# Altium schematic symbol library MyLibrary.SchLib: 320 symbols (part 1 of 7)
Pins are listed as number, name and electrical type; pins without a type are passive.

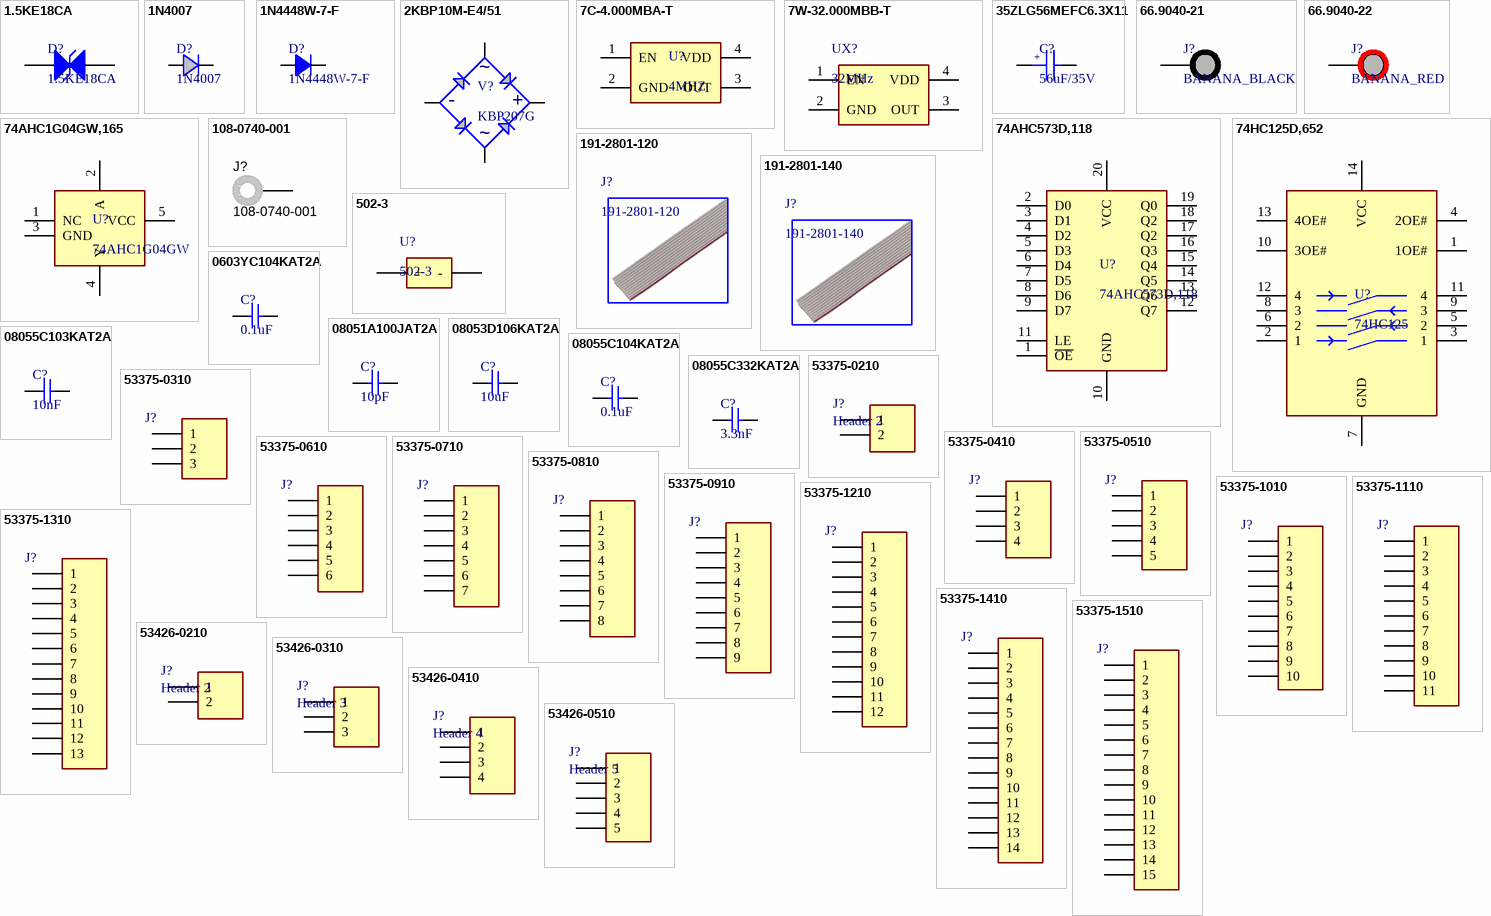
[diagram p0: symbols 1.5KE18CA to 53426-0510]

## 1.5KE18CA
designator D?
TVS 15.3VWM DO201 32.5VC; Manufacturer: STMicroelectronics; Reverse Standoff Voltage: 15.3V; Min Breakdown Voltage: 17.1V; Clamping Voltage: 32.5V; Peak Pulse Current: 308A; Peak Pulse Power: 1.5kW; Polarity: Bidirectional; Test Current: 1mA; Direction: Unidirectional,Bidirectional; Number of Elements: 1; Max Breakdown Voltage: 18.9V; Max Reverse Leakage Current: 1uA; Element Configuration: Single; Power Line Protection: No; Voltage Rating (DC): 18V; Capacitance: 4.3nF; Type: THT; Supplier 1: Farnell; Manufacturer Part Number: 1.5KE18CA; Stock 1: 8896; Pricing 1: 5=0.412, 25=0.361, 100=0.284, 250=0.265, 500=0.195, 1000=0.18, 5000=0.169 (EUR); Mount: Through Hole; Number of Pins: 2; Weight: 0.01lb; Min Operating Temperature: -65°C; Max Operating Temperature: 175°C; Packaging: Tape and Reel; Breakdown Voltage: 17.1V; Reverse Breakdown Voltage: 17.1V; Package Quantity: 1; Max Surge Current: 1mA; Power Dissipation: 1.5kW; Leakage Current: 1uA; Operating Supply Voltage: 15.3V; Termination: Through Hole; Number of Bidirectional Channels: 1; Diameter: 5.3mm; Length: 9.5mm; Height: 5.3mm; Width: 5.3mm; Radiation Hardening: No; Lead Free: Lead Free; REACH SVHC: No SVHC; ComponentLink1URL: https://datasheet.ciiva.com/338/cd00000663-338918.pdf; ComponentLink1Description: Datasheet; Supplier Part Number 1: 9801111; Package: DO-201
footprint DIODA-DO201
pins: A, C

## 1N4007
designator D?
DIODE 1000V DO41 1A; Manufacturer: FAIRCHILD SEMICONDUCTOR; Repetitive Reverse Voltage Vrrm Max: 1; Diode Configuration: Single; Forward Voltage VF Max: 1.1; Forward Surge Current Ifsm Max: 30; Diode Case Style: DO-41 (DO-204; No. of Pins: 2 Pin; Product Range: 1N4007 Series; SVHC: No SVHC (15-Jun-2015); Diode Type: Standard Recovery; Junction Temperature Tj Max: 175; Power Dissipation Ptot Max: 2.5; Type: THT; Supplier 1: Future Electronics; Manufacturer Part Number: 1N4007; RoHS: YES; Stock 1: 49010; Pricing 1: 1=0.146, 10=0.137, 25=0.134, 50=0.131, 100=0.0465, 500=0.042, 1000=0.028, 2500=0.019 (GBP); Forward Current If(AV): 1; Reverse Recovery Time trr Max: -; Operating Temperature Max: 150; Packaging: Cut Tape; Current Ifsm: 30; Device Marking: 1N4007; Forward Voltage: 1.1; Operating Temperature Min: -55; Operating Temperature Range: -55°C to +175; Termination Type: Axial Leaded<!--FANDB--><div class="features-and-benefits-container"><div class="features-and-benefits-description"><span class="features-benefits-value">The 1N4007 is a Rectifier Diode for general purposes.</span></div><div class="features-and-benefits-list"><ul class="features-and-benefits-list-list"><li class="features-and-benefits-list-item">Low Forward Voltage Drop</li><li class="features-and-benefits-list-item">High Surge Current Capability</li><li class="features-and-benefits-list-item">1.1V at 1; ComponentLink1URL: http://www.farnell.com/datasheets/2288250.pdf; ComponentLink1Description: Datasheet; Supplier Part Number 1: 1N4007; Package: DO-41
footprint DIODA-DO41-AC
pins: A, C

## 1N4448W-7-F
designator D?
DIODE 75V 250MA FAST SWITCHING; Manufacturer: Diodes; Peak Current-Max: 4 A; Power Dissipation: 400 mW; Reverse Recovery Time-Max: 4 ns; Type: SMD; Supplier 1: Future Electronics; Manufacturer Part Number: 1N4448W-7-F; Stock 1: 137215; Pricing 1: 1=0.2, 10=0.179, 100=0.0972, 500=0.0598, 1000=0.0408 (USD); Average Forward Current-Max: 250 mA; Reverse Voltage-Max [Vrrm]: 75 V; ComponentLink1URL: https://datasheet.ciiva.com/911/ds12002-911747.pdf; ComponentLink1Description: Datasheet; Supplier Part Number 1: 1N4448W-7-F; Package: SOD3716X135N
footprint SOD123 (SODFL, 2-Leads, Body 1,50x5,20mm, IPC Medium Density)
pins: A, C

## 2KBP10M-E4/51
designator V?, comment KBP207G
BRIDGE 2A KBMP 1000V; Manufacturer: Taiwan Semiconductor; Diode Type: Single Phase; Voltage - Forward (Vf) (Max) @ If: 1.1V @ 3.14A; Current - Reverse Leakage @ Vr: 5µA @ 1000V; Supplier 1: Elfa; Manufacturer Part Number: KBP207G; RoHS: RoHS Compliant; Category: Discrete Semiconductor Products; Stock 1: 0; Pricing 1: 1=0.74, 10=0.647, 25=0.6084, 100=0.4964, 250=0.46108, 500=0.3924, 1000=0.31392, 2500=0.28449, 5000=0.26487 (USD); Packaging: Tray; Part Status: Last Time Buy; Technology: Standard; Voltage - Peak Reverse (Max): 1000V; Current - Average Rectified (Io): 2A; Operating Temperature: -55°C ~ 165°C (TJ); Mounting Type: Through Hole; Package: 4-SIP, KBPM; Supplier Device Package: KBPM; ComponentLink1URL: http://www.vishay.com/docs/88532/3n253.pdf; ComponentLink1Description: Datasheet; Supplier Part Number 1: 170-04-419; Type: THT
footprint GREC-KBP207G
pins: 1, 2, N, P
text: ~; -; +

## 7C-4.000MBA-T
designator U?, comment 4MHZ
OSC 4MHZ DFN4-5x3; Manufacturer: TXC; Manufacturer Part Number: 7C-4.000MBA-T; Max Supply Current: 30mA; Operating Supply Voltage: 3.3V; Frequency Stability: 25ppm; Supplier 1: Farnell; Stock 1: 301; Pricing 1: 1=1.84000, 50=1.26000, 100=1.24000, 250=1.23000, 500=1.22000, 1000=1.21000, 5000=1.20000 (GBP); RoHS: Yes; Mount: Surface Mount; Case/Package: SMD/SMT; Min Operating Temperature: -10°C; Max Operating Temperature: 70°C; Termination: SMD/SMT; Package Quantity: 1000; Packaging: Tape and Reel; Frequency: 4MHz; Length: 0.197inch; Height: 0.055inch; Width: 0.126inch; Depth: 3.2mm; REACH SVHC: No SVHC; ComponentLink1URL: https://datasheet.ciiva.com/870/7c-tight-870240.pdf?src-supplier=Digi-Key; ComponentLink1Description: Datasheet; Supplier Part Number 1: 1842040; Type: SMD
footprint DFN4-5x3
pins: 1 EN, 2 GND, 3 OUT, 4 VDD

## 7W-32.000MBB-T
designator UX?, comment 32MHz
OSC 32MHZ DFN4 3V3; Manufacturer: TXC; Manufacturer Part Number: 7W-32.000MBB-T; Catalog Drawings: 7(W,C,X), 8W Series Bottom / 7W Series Side / 7W Series Top; Function: Tri-State (Output Enable); Output: CMOS; Voltage - Supply: 3.3V; Frequency Stability: ±50ppm; Current - Supply (Max): 20mA; Dynamic Catalog: 7W Series; Other Names: 887-1177-2; Standard Package: 1,000; Category: Crystals and Oscillators; Family: Oscillators; Series: 7W; Type: SMD; Frequency: 32MHz; Operating Temperature: -10°C ~ 70°C; Mounting Type: Surface Mount; Size / Dimension: 0.276" L x 0.197" W (7.00mm x 5.00mm); Height: 0.056" (1.42mm); Package: DFN720X520X140-4N; Packaging: Tape & Reel (TR); ComponentLink1URL: https://datasheet.ciiva.com/866/7w-866142.pdf; ComponentLink1Description: Datasheet; Supplier 1: Mouser; Supplier Part Number 1: 717-7W-32.000MBB-T
footprint DFN4 (DFN, 4-Leads, Body 5,20x7,20mm, Pitch 4,20mm, IPC Medium Density)
pins: 1 EN, 2 GND, 3 OUT, 4 VDD

## 35ZLG56MEFC6.3X11
designator C?, comment 56uF/35V
CAP 56UF ELEC RAD 35V; Manufacturer: RUBYCON; Manufacturer Part Number: 35ZLG56MEFC6.3X11; Capacitance: 56; Voltage Rating: 35; Product Range: ZLG Series; Capacitance Tolerance: ± 20%; Capacitor Terminals: Radial Leaded; Lifetime @ Temperature: 2000 hours @ 105; External Length / Height: 11; Impedance: 0.065; Lead Diameter: 0.5; No. of Pins: 2; Ripple Current AC: 760mA<!--FANDB--><div class="features-and-benefits-container"><div class="features-and-benefits-desc-container"><span class="features-and-benefits-container-desc">Electrolytic Capacitor, Miniature, 56 µF, 35 V, ZLG Series, ± 20%, Radial Leaded, 6.3 mm</span></div><div class="features-and-benefits-description"><span class="features-benefits-value">The Rubycon ZLG series is radial leaded, polarized aluminium electrolytic capacitors. At higher frequencies impedance will be extremely less than ZL series.</span></div><div class="features-and-benefits-list"><ul class="features-and-benefits-list-list"><li class="features-and-benefits-list-item">Ultra low impedance</li><li class="features-and-benefits-list-item">Capacitance value ranges from 4.7?F to 3900?F</li><li class="features-and-benefits-list-item">Available in ±20% tolerance</li><li class="features-and-benefits-list-item">Rated voltage of 6.3VDC to 35VDC</li><li class="features-and-benefits-list-item">Operating temperature range from -40°C to 105°C</li><li class="features-and-benefits-list-item">Capacitor size varies from 4mm × 7mm to 12.5mm × 25mm</li><li class="features-and-benefits-list-item">Endurance of 1000hours to 5000hours at 105; Type: THT; Supplier 1: Avnet Abacus; RoHS: YES; Stock 1: 4106; Pricing 1: 5=0.29, 50=0.166, 250=0.129, 500=0.116, 1000=0.11, 2000=0.102, 10000=0.0935, 20000=0.0853 (GBP); Diameter: 6.3; Packaging: Each; Lead Spacing: 2.5; Height: 11; Operating Temperature Min: -40; Operating Temperature Max: 105; ESR: -; Automotive Qualification Standard: -; Capacitance Tolerance ±: ± 20%; Operating Temperature Range: -40°C to +105; ComponentLink1URL: http://www.farnell.com/datasheets/359733.pdf; ComponentLink1Description: Datasheet; Supplier Part Number 1: 35ZLG56MEFC6.3X11; Package: Radial Leaded
footprint KONDENZ-2,54-PNX6,3
pins: N, P
text: +

## 66.9040-21
designator J?, comment BANANA_BLACK
BANANA SOCKET PCB 4MM R/A BLACK; Manufacturer: Multi-Contact; Manufacturer Part Number: 66.9040-21; Voltage Rating: 1kV; Current Rating: 24A; Supplier 1: RSComponents; Stock 1: 0; Mount: Socket; Color: Black; Contact Material: Brass; Contact Plating: Gold; Termination: Solder; Voltage Rating (DC): 1kV; Length: 33mm; REACH SVHC: No SVHC; ComponentLink1URL: http://uk.rs-online.com/webdocs/1151/0900766b811511cc.pdf; ComponentLink1Description: Datasheet; Supplier Part Number 1: 7632998; Type: THT
footprint BANANA_THT_BLACK
pins: 1

## 66.9040-22
designator J?, comment BANANA_RED
BANANA 66.9040-22 SOCKET PCB 4MM R/A RED; Manufacturer: Multi-Contact; Voltage Rating: 1kV; Current Rating: 24A; Supplier 1: RSComponents; Manufacturer Part Number: 66.9040-22; Stock 1: 0; Mount: Socket; Contact Material: Brass; Contact Plating: Gold; Color: Red; Termination: Solder; Voltage Rating (DC): 1kV; Length: 33mm; REACH SVHC: No SVHC; ComponentLink2URL: http://uk.rs-online.com/webdocs/1151/0900766b811511cc.pdf; ComponentLink2Description: Datasheet; Supplier Part Number 1: 7633001; Type: THT
footprint BANANA_THT_RED
pins: 1

## 74AHC1G04GW,165
designator U?, comment 74AHC1G04GW
INVERTER TSSOP5; Manufacturer: Nexperia USA Inc.; Manufacturer Part Number: 74AHC1G04GW,165; Number of Circuits: 1; Voltage - Supply: 2 V ~ 5.5 V; Current - Quiescent (Max): 1µA; Current - Output High, Low: 8mA, 8mA; Logic Level - Low: 0.5 V ~ 1.65 V; Logic Level - High: 1.5 V ~ 3.85 V; Max Propagation Delay @ V, Max CL: 7.5ns @ 5V, 50pF; .PCBChecked: BP; RoHS: RoHS Compliant; Category: Integrated Circuits (ICs); Packaging: Tape & Reel (TR); Part Status: Obsolete; Logic Type: Inverter; Number of Inputs: 1; Features: -; Operating Temperature: -40°C ~ 125°C; Mounting Type: Surface Mount; Supplier Device Package: 5-TSSOP; Package: SOP65P300X110-5N; ComponentLink1URL: http://media.digikey.com/pdf/Data%20Sheets/NXP%20PDFs/74AHC_AHCT1G04.pdf; ComponentLink1Description: Datasheet; Type: SMD; .SCHChecked: BP; Supplier 1: Farnell; Supplier Part Number 1: 1085239RL
footprint TSSOP5 (SOT23, 5-Leads, Body 2,05x2,13mm, Pitch 0,65mm, IPC Medium Density)
pins: 1 NC, 2 A, 3 GND, 4 Y, 5 VCC

## 74AHC573D,118
designator U?
LATCH 20SOIC; Manufacturer: NXP Semiconductors; Output Current: 25mA; Number of Bits: 8; Logic Function: D-Type,Latch; Propagation Delay: 19.5ns; Operating Supply Voltage: 5V; Min Supply Voltage: 2V; Max Supply Voltage: 5.5V; Number of Elements: 1; Polarity: Non-Inverting; Turn-On Delay Time: 3.9ns; High Level Output Current: -8mA; Low Level Output Current: 8mA; Quiescent Current: 4uA; Supplier 1: Farnell; Manufacturer Part Number: 74AHC573D,118; RoHS: Yes; Stock 1: 1613; Pricing 1: 5 = 0.62700, 50 = 0.55200, 100 = 0.36200, 250 = 0.32200, 500 = 0.28300, 1000 = 0.19000, 5000 = 0.17700, 10000 = 0.17300 (GBP); Mount: Surface Mount; Package: SOIC127P1065X265-20N; Number of Pins: 20; Contact Plating: Gold; Min Operating Temperature: -40°C; Max Operating Temperature: 125°C; Packaging: Tape and Reel; Package Quantity: 2000; Number of Circuits: 8; Number of Output Lines: 8; Number of Input Lines: 8; Independent Circuits: 1; Radiation Hardening: No; REACH SVHC: No SVHC; Lead Free: Lead Free; ComponentLink3URL: http://www.farnell.com/datasheets/1645456.pdf; ComponentLink3Description: Datasheet; Supplier Part Number 1: 2445111; Type: SMD
footprint SOIC20 (SOIC, 20-Leads, Body 12.80x7.50mm, Pitch 1.27mm, IPC Medium Density)
pins: 1 ~{OE}, 2 D0, 3 D1, 4 D2, 5 D3, 6 D4, 7 D5, 8 D6, 9 D7, 10 GND, 11 LE, 12 Q7, 13 Q6, 14 Q5, 15 Q4, 16 Q3, 17 Q2, 18 Q2, 19 Q0, 20 VCC

## 74HC125D,652
designator U?, comment 74HC125
BUFFER TRI-ST SOP14; Manufacturer: Nexperia USA Inc.; Manufacturer Part Number: 74HC125D,652; Logic Type: Buffer, Non-Inverting; Number of Bits per Element: 1; Output Type: Push-Pull; Current - Output High, Low: 7.8mA, 7.8mA; Voltage - Supply: 2 V ~ 6 V; .PCBChecked: BP; Supplier 1: Future Electronics; RoHS: RoHS Compliant; Category: Integrated Circuits (ICs); Stock 1: 1800; Pricing 1: 1=0.43, 10=0.326, 100=0.2033, 500=0.1391, 1000=0.107 (USD); Packaging: Tube; Part Status: Active; Input Type: -; Operating Temperature: -40°C ~ 125°C (TA); Mounting Type: Surface Mount; Package: SOIC127P600X175-14N; Supplier Device Package: 14-SO; ComponentLink1URL: http://assets.nexperia.com/documents/data-sheet/74HC_HCT125.pdf; ComponentLink1Description: Datasheet; Supplier Part Number 1: 74HC125D,652; Type: SMD; .SCHChecked: BP
footprint SOIC14 (SOIC, 14-Leads, Body 8,65x3,90mm, Pitch 1,27mm, IPC Medium Density)
pins: 1 1OE#, 2 1, 3 1, 4 2OE#, 5 2, 6 2, 7 GND, 8 3, 9 3, 10 3OE#, 11 4, 12 4, 13 4OE#, 14 VCC

## 108-0740-001
designator J?
Standard Banana Jack, Uninsulated, 15A; Manufacturer: Emerson Network Power; SymbolCreator: a0412235; CompType: Connector; U/M: EA; SymbolVersion: 2009-09-23; PartNumber: 108-0740-001; PackageReference: Banana Jack; RoHS: Y; MountType: TH; ComponentLink1Description: Datasheet Link; ComponentLink1URL: http://emersonnetworkpower.com/webapp/wcs/stores/servlet/ESC/resources/1080740001.pdf; Publisher: Texas Instruments; LatestRevisionDate: 2014-11-22; Supplier 1: Digi-Key; Supplier Part Number 1: J147-ND; Supplier 2: Mouser; Supplier Part Number 2: 530-108-0740-1
footprint Johnson_108-0740-001
pins: 1

## 191-2801-120
designator J?
RIBBON CABLE 20 POLES 30.5M 28AWG 300V; Manufacturer: Amphenol Spectra-Strip; Conductor Material: Copper; Number of Conductors: 20; Capacitance: 14pF; Shielding: Unshielded; Impedance: 105R; Wire/Cable Type: Ribbon,Flat Flex,Flat; Current Rating: 1A; Number of Strands: 7; Cable Pitch: 1.27mm; Cable Length: 100foot; Approvals: UL,CSA; Manufacturer Part Number: 191-2801-120; RoHS: Yes; Stock 1: 14; Pricing 1: 1 = 29.06000, 5 = 23.97600, 10 = 22.04600, 25 = 19.70960, 50 = 17.98240, 100 = 16.56010 (USD); Mount: Cable; Case/Package: 120; Color: Grey,Red; Insulation Material: Polyvinyl; Voltage Rating: 300V; Max Current Rating: 1A; Packaging: Spool; Package Quantity: 100; Number of Cores: 20; Length: 100foot; Height: 24.13mm; Wire/Cable Gauge: 28AWG; Width: 25.4mm; Pitch: 1.27mm; Radiation Hardening: No; REACH SVHC: No SVHC; Halogen Free: Not Halogen Free; ComponentLink1URL: https://datasheet.ciiva.com/29326/607208-da-01-en-flachbandkabel-20polig-rm-1-27-29326456.pdf?src-supplier=Conrad; ComponentLink1Description: Datasheet; Supplier 1: Elfa; Supplier Part Number 1: 301-12-855

## 191-2801-140
designator J?  (no BOM)
RIBBON CABLE 40 POLES 30M 28AWG 300V; Manufacturer: Amphenol; Conductor Material: Copper; Capacitance: 45.92pF; Number of Conductors: 40; Shielding: Unshielded; Impedance: 105R; Max Current Rating: 1A; Insulation Resistance: 10GR; Number of Strands: 7; Cable Pitch: 1.27mm; Cable Length: 30.48m; Supplier 1: Elfa; Manufacturer Part Number: 191-2801-140; RoHS: Yes; Stock 1: 10; Pricing 1: 1 = 118.17000, 5 = 96.78000, 10 = 88.75900, 25 = 78.60000, 50 = 71.64900, 100 = 71.11430 (USD); Mount: Cable; Color: Grey,Red; Material: PVC; Insulation Material: PVC; Packaging: Tape and Reel; Wire/Cable Type: Ribbon; Voltage Rating: 300V; Voltage Rating (DC): 300V; Voltage Rating (AC): 300V; Current Rating: 1A; Length: 30.5m; Width: 50.8mm; Wire/Cable Gauge: 28AWG; Pitch: 1.27mm; Thickness: 889um; Depth: 50.8mm; Radiation Hardening: No; Lead Free: Lead Free; ComponentLink1URL: https://datasheet.ciiva.com/25650/843-191-2801series-25650662.pdf?src-supplier=Future+Electronics; ComponentLink1Description: Datasheet; Supplier Part Number 1: 301-09-936; Type: CABLE

## 502-3
designator U?
BATT HOLDER PC COIN 1CELL 16MM; Manufacturer: Keystone Electronics; Number of Batteries: 2; Number of Cells: 1; Supplier 1: Mouser; Manufacturer Part Number: 502-3; Stock 1: 0; Mount: Through Hole,PCB; Colour: Black; Contact Plating: Nickel,Tin,Silver; Contact Material: Bronze; Material: PBT,Polybutylene; Min Operating Temperature: -50°C; Max Operating Temperature: 145°C; Termination: PC Pin; Packaging: Bulk; Package Quantity: 1; Lead Free: Lead Free; REACH SVHC: No SVHC; ComponentLink1URL: https://datasheet.ciiva.com/12343/m60p2-15707-12343520.pdf; ComponentLink1Description: https://datasheet.ciiva.com/12343/m60p2-15707-12343520.pdf; ComponentLink2URL: https://datasheet.ciiva.com/4/502-3-4683.pdf; ComponentLink2Description: https://datasheet.ciiva.com/4/502-3-4683.pdf; ComponentLink3URL: https://datasheet.ciiva.com/16375/m60-2p2-16375499.pdf; ComponentLink3Description: https://datasheet.ciiva.com/16375/m60-2p2-16375499.pdf; Supplier Part Number 1: 534-502-3; Type: THT; Package / Type: PC Pin
footprint BATTERY
pins: 1 +, 2 -

## 0603YC104KAT2A
designator C?, comment 0.1uF
CAP 0.1UF 0603 16V; Manufacturer: Kyocera AVX; Manufacturer Part Number: 0603YC104KAT2A; Capacitance: 100nF; Tolerance: 10%; Dielectric: X7R; Insulation Resistance: 100GR; Dissipation Factor: 3.5%; Type: SMD; Supplier 1: Future Electronics; RoHS: Yes; Stock 1: 9536000; Pricing 1: 4000 = 0.02400, 12000 = 0.02200, 24000 = 0.02000 (USD); Mount: Surface Mount; Case/Package: 0603; Number of Pins: 2; Case Code (Metric): 1608; Case Code (Imperial): 0603; Contact Plating: Tin; Min Operating Temperature: -55°C; Max Operating Temperature: 125°C; Packaging: Tape and Reel; Voltage Rating (DC): 16V; Voltage: 16V; Voltage Rating: 16V; Package Quantity: 1; Termination: SMD/SMT; Length: 1.6mm; Height: 0.9mm; Depth: 0.81mm; Width: 0.032inch; Thickness: 0.035inch; Radiation Hardening: No; REACH SVHC: No SVHC; Lead Free: Lead Free; ComponentLink1URL: https://datasheet.ciiva.com/11788/0900766b80dc2409-11788525.pdf?src-supplier=RSComponents; ComponentLink1Description: Datasheet; Supplier Part Number 1: 0603YC104KAT2A-REEL; Package: CAPC1608X09N
footprint C0603 (Chip Capacitor, 2-Leads, Body 1.60x0.80mm, IPC Medium Density)
pins: 1, 2 20

## 08051A100JAT2A
designator C?, comment 10pF
CAP 10PF 0805 100V; Manufacturer: KEMET; Manufacturer Part Number: 08051A100JAT2A; Ceramic Capacitor Case: 0805 [2012 Metric]; Capacitance: 10; Voltage Rating: 100; Capacitance Tolerance: ± 5%; Dielectric Characteristic: C0G / NP0; SVHC: No SVHC (17-Dec-2015); Capacitance Tolerance +: 5%; Capacitor Terminals: SMD; External Depth: 0.95; External Length / Height: 2; External Width: 1.25; Insulation Resistance: 100000; Reel Quantity: 3000; Temperature Coefficient: 0ppm/°C ± 30; Voltage Rating V DC: 100V<!--FANDB--><div class="features-and-benefits-container"><div class="features-and-benefits-description"><span class="features-benefits-value">The 08051A100JAT2A is a Multilayer Ceramic Capacitor with Ni/Sn-plated termination, C0G (NP0) dielectric and 0805 case. A multilayer ceramic (MLC) capacitor is a monolithic block of ceramic containing two sets of offset, interleaved planar electrodes that extend to two opposite surfaces of the ceramic dielectric. C0G (NP0) is the most popular formulation of the temperature-compensating, EIA Class I ceramic materials. Modern C0G (NP0) formulations contain neodymium, samarium and other rare earth oxides. C0G (NP0) ceramics offer one of the most stable capacitor dielectrics available. Capacitance drift or hysteresis for C0G (NP0) ceramics is negligible at less than ±0.05% versus up to ±2% for films. Typical capacitance change with life is less than ±0.1% for C0G (NP0), one-fifth that shown by most other dielectrics. C0G (NP0) formulations show no aging characteristics.</span></div><div class="features-and-benefits-list"><ul class="features-and-benefits-list-list"><li class="features-and-benefits-list-item">Reflow/wave soldering</li><li class="features-and-benefits-list-item">EIA 0101, 0201, 0402, 0603, 0805, 1206, 1210, 1812, 1825, 2220, 2225 case sizes available</li><li class="features-and-benefits-list-item">Rated DC voltage of 6.3V, 10V, 16V, 25V, 50V, 100V, 200V, 500V</li><li class="features-and-benefits-list-item">±0.10pF, ±0.25pF, ±0.50pF, ±1%, ±2%, ±5% and ±10% tolerance</li><li class="features-and-benefits-list-item">Nickel (Ni) and tin (Sn) plated terminations</li><li class="features-and-benefits-list-item">Load life of 1000h at 125?C</li><li class="features-and-benefits-list-item">Operating temperature range from -55?C to 125; .PCBChecked: BP; RoHS: YES; Product Range: -; Packaging: Cut Tape; Operating Temperature Min: -55; Operating Temperature Max: 125; Automotive Qualification Standard: -; MSL: MSL 1 - Unlimited; Capacitance Tolerance ±: ± 5%; No. of Pins: 2; Operating Temperature Range: -55°C to +125; Tape Width: 8; Tolerance +: 5%; Tolerance -: 5%; ComponentLink1URL: http://www.farnell.com/datasheets/2068140.pdf; ComponentLink1Description: Datasheet; Category: Capacitors; Package: CAPC2012X88N; Type: SMD; .SCHChecked: BP; Supplier 1: Avnet Abacus; Supplier Part Number 1: C0805C100J5GACTU
footprint C0805
footprint CAPC2012X09N (Chip Capacitor, 2-Leads, Body 2.00x1.25mm, IPC Medium Density)
pins: 1, 2 20

## 08053D106KAT2A
designator C?, comment 10uF
CAP 10uF 0805 25V; Manufacturer: Kyocera AVX; Manufacturer Part Number: 08053D106KAT2A; Brand: AVX; Case Height: 1.4 mm; Case Length: 2.01 mm; Dielectric: X5R; Case Width: 1.25 mm; Tolerance: 10 %; Temperature Coefficient / Code: +/- 15 %; Type: SMD; Supplier 1: Farnell; Stock 1: 18000; Pricing 1: 3000=0.049, 15000=0.0415, 30000=0.0359 (EUR); Capacitance: 10 uF; Case Code - in: 0805; Case Code - mm: 2012; Dimensions: 1.25 mm W x 2.01 mm L x 1.4 mm H; Minimum Operating Temperature: - 55 C; Maximum Operating Temperature: + 85 C; Operating Temperature Range: - 55 C to + 85 C; Factory Pack Quantity: 3000; Voltage Rating: 25 V; Product Category: Multilayer Ceramic Capacitors MLCC - SMD/SMT; RoHS: Details; Voltage Rating DC: 25 V; Product: General Type MLCCs; Package: CAPC2012X88N; Packaging: Reel; Series: CX5R; Termination Style: SMD/SMT; ComponentLink1URL: https://datasheet.ciiva.com/6258/cx5r-6258222.pdf; ComponentLink1Description: Datasheet; Supplier Part Number 1: 2280959
footprint C0805
footprint CAPC2012X09N (Chip Capacitor, 2-Leads, Body 2.00x1.25mm, IPC Medium Density)
pins: 1, 2 20

## 08055C103KAT2A
designator C?, comment 10nF
CAP 10NF 0805 50V; Manufacturer: KEMET; Manufacturer Part Number: 08055C103KAT2A; Ceramic Capacitor Case: 0805 [2012 Metric]; Capacitance: 0.01; Voltage Rating: 50; Capacitance Tolerance: ± 10%; Dielectric Characteristic: X7; SVHC: No SVHC (17-Dec-2015); Capacitance Tolerance +: 10%; Capacitor Terminals: SMD; External Depth: 0.95; External Length / Height: 2; External Width: 1.25; Insulation Resistance: 100000; Reel Quantity: 3000; Voltage Rating V DC: 50V<!--FANDB--><div class="features-and-benefits-container"><div class="features-and-benefits-description"><span class="features-benefits-value">The AVX multilayer ceramic capacitors with EIA class II, X7R dielectric material are temperature stable ceramic chip capacitors. This multilayer ceramic capacitor is a monolithic block of ceramic containing two sets of offset, interleaved planar electrodes that extend to two opposite surfaces of ceramic dielectric. Capacitance for X7R dielectric varies under influence of electrical operating conditions such as voltage and frequency. X7R dielectric chip usage covers broad spectrum of industrial applications where known changes in capacitance due to applied voltages are acceptable.</span></div><div class="features-and-benefits-list"><ul class="features-and-benefits-list-list"><li class="features-and-benefits-list-item">Capacitance value ranges from 100pF to 100?F</li><li class="features-and-benefits-list-item">EIA 0101, 0201, 0402, 0603, 0805, 1206, 1210, 1812, 1825, 2220, 2225 case sizes available</li><li class="features-and-benefits-list-item">Rated DC voltage of 4V, 6.3V, 10V, 16V, 25V, 50V, 100V, 200V, 500V</li><li class="features-and-benefits-list-item">±5%, ±10% and ±20% tolerance</li><li class="features-and-benefits-list-item">Available in FLEXITERM/gold/Nickel (Ni) and tin (Sn) plated terminations</li><li class="features-and-benefits-list-item">Load life of 1000h at 125?C</li><li class="features-and-benefits-list-item">Operating temperature range from -55?C to 125; .PCBChecked: BP; Supplier 1: Avnet Abacus; RoHS: YES; Stock 1: 145878; Pricing 1: 10=0.0181, 100=0.0134, 500=0.0106, 1000=0.0088, 2000=0.0075 (GBP); Product Range: -; Packaging: Cut Tape; Operating Temperature Min: -55; Operating Temperature Max: 125; Automotive Qualification Standard: -; MSL: MSL 1 - Unlimited; Capacitance Tolerance ±: ± 10%; No. of Pins: 2; Operating Temperature Range: -55°C to +125; Tape Width: 8; Tolerance +: 10%; Tolerance -: 10%; ComponentLink1URL: http://www.farnell.com/datasheets/2237835.pdf; ComponentLink1Description: Datasheet; Supplier Part Number 1: C0805C103K5RACTU; Category: Capacitors; Package: CAPC2012X88N; Type: SMD; .SCHChecked: BP
footprint C0805
footprint CAPC2012X09N (Chip Capacitor, 2-Leads, Body 2.00x1.25mm, IPC Medium Density)
pins: 1, 2 20

## 08055C104KAT2A
designator C?, comment 0.1uF
CAP 0.1uF 0805 50V; Manufacturer: KEMET; Manufacturer Part Number: 08055C104KAT2A; Ceramic Capacitor Case: 0805 [2012 Metric]; Capacitance: 0.1; Voltage Rating: 50; Capacitance Tolerance: ± 10%; Dielectric Characteristic: X7; SVHC: No SVHC (17-Dec-2015); Capacitance Tolerance +: 10%; Capacitor Terminals: SMD; External Depth: 0.95; External Length / Height: 2; External Width: 1.25; Insulation Resistance: 100000; Reel Quantity: 3000; Voltage Rating V DC: 50V<!--FANDB--><div class="features-and-benefits-container"><div class="features-and-benefits-description"><span class="features-benefits-value">The AVX multilayer ceramic capacitors with EIA class II, X7R dielectric material are temperature stable ceramic chip capacitors. This multilayer ceramic capacitor is a monolithic block of ceramic containing two sets of offset, interleaved planar electrodes that extend to two opposite surfaces of ceramic dielectric. Capacitance for X7R dielectric varies under influence of electrical operating conditions such as voltage and frequency. X7R dielectric chip usage covers broad spectrum of industrial applications where known changes in capacitance due to applied voltages are acceptable.</span></div><div class="features-and-benefits-list"><ul class="features-and-benefits-list-list"><li class="features-and-benefits-list-item">Capacitance value ranges from 100pF to 100?F</li><li class="features-and-benefits-list-item">EIA 0101, 0201, 0402, 0603, 0805, 1206, 1210, 1812, 1825, 2220, 2225 case sizes available</li><li class="features-and-benefits-list-item">Rated DC voltage of 4V, 6.3V, 10V, 16V, 25V, 50V, 100V, 200V, 500V</li><li class="features-and-benefits-list-item">±5%, ±10% and ±20% tolerance</li><li class="features-and-benefits-list-item">Available in FLEXITERM/gold/Nickel (Ni) and tin (Sn) plated terminations</li><li class="features-and-benefits-list-item">Load life of 1000h at 125?C</li><li class="features-and-benefits-list-item">Operating temperature range from -55?C to 125; .PCBChecked: BP; Supplier 1: Avnet Abacus; RoHS: YES; Stock 1: 94357; Pricing 1: 10=0.0194, 100=0.0134, 500=0.0106, 1000=0.0088, 2000=0.0075 (GBP); Product Range: -; Packaging: Cut Tape; Operating Temperature Min: -55; Operating Temperature Max: 125; Automotive Qualification Standard: -; MSL: MSL 1 - Unlimited; Capacitance Tolerance ±: ± 10%; No. of Pins: 2; Operating Temperature Range: -55°C to +125; Tape Width: 8; Tolerance +: 10%; Tolerance -: 10%; ComponentLink1URL: http://www.farnell.com/datasheets/2237835.pdf; ComponentLink1Description: Datasheet; Supplier Part Number 1: C0805C104K5RAC7800; Category: Capacitors; Package: CAPC2012X88N; Type: SMD; .SCHChecked: BP
footprint C0805
footprint CAPC2012X09N (Chip Capacitor, 2-Leads, Body 2.00x1.25mm, IPC Medium Density)
pins: 1, 2 20

## 08055C332KAT2A
designator C?, comment 3.3nF
CAP 3.3NF 0805 50V; Manufacturer: Kyocera AVX; Manufacturer Part Number: 08055C332KAT2A; Tolerance: 10%; Dielectric: X7R; Dissipation Factor: 2.5%; Type: SMD; Supplier 1: Future Electronics; Stock 1: 39045; Pricing 1: 1=0.0268 (USD); Mount: Surface Mount; Case/Package: 0805; Number of Pins: 2; Case Code (Metric): 2012; Case Code (Imperial): 0805; Contact Plating: Tin,Matte; Min Operating Temperature: -55°C; Max Operating Temperature: 125°C; Capacitance: 3.3nF; Packaging: Tape and Reel; Voltage Rating (DC): 50V; Voltage Rating: 50V; Package Quantity: 1; Termination: SMD/SMT; Voltage: 50V; Length: 2.01mm; Height: 0.94mm; Depth: 1.25mm; Width: 0.049inch; Thickness: 0.037inch; Radiation Hardening: No; REACH SVHC: No SVHC; Lead Free: Lead Free; ComponentLink1URL: https://datasheet.ciiva.com/150/cx7r-150716.pdf; ComponentLink1Description: Datasheet; Supplier Part Number 1: 1571694; Package: CAPC2012X88N
footprint C0805
footprint CAPC2012X09N (Chip Capacitor, 2-Leads, Body 2.00x1.25mm, IPC Medium Density)
pins: 1, 2 20

## 53375-0210
designator J?, comment Header 2
CONN HEADER VERT 2POS 2.5MM; Manufacturer: Molex; Manufacturer Part Number: 53375-0210; Max Voltage Rating (AC): 250V; Contact Resistance: 20mR; Number of Positions: 2; Current Rating: 3A; Glow Wire Compliant: Non-compliant; Connector Type: Male Pin; Supplier 1: Digi-Key; Supplier Part Number 1: WM3421-ND; Stock: 10356; Pricing: 1=0.34, 10=0.323, 100=0.2259, 500=0.1936, 1000=0.1614, 5000=0.1383, 10000=0.1291 (USD); Mount: Through Hole; Contact Plating: Tin; Contact Material: Bronze; Color: White; Housing Material: Polyester; Min Operating Temperature: -40°C; Max Operating Temperature: 105°C; Termination: Solder; Number of Rows: 1; Orientation: Vertical; Packaging: Bulk; Voltage Rating: 250V; Package Quantity: 2500; Contact Gender: Male; Number of Circuits: 2; Pitch: 2.5mm; ComponentLink1URL: http://www.mouser.com/ds/2/276/0533750210_PCB_HEADERS-146529.pdf; ComponentLink1Description: Datasheet; Depth: 6.8mm; Fastening Type: Latch; Housing Color: Natural; Lead Pitch: 2.5mm; Length: 7.4mm; Type: THT
footprint 53375-0210
pins: 1, 2

## 53375-0310
designator J?, comment Header 3  (value not drawn)
CONN HEADER VERT 3POS 2.5MM; Manufacturer: Molex; Manufacturer Part Number: 53375-0310; Contact Resistance: 20mR; Max Voltage Rating (AC): 250V; Number of Positions: 3; Current Rating: 3A; Glow Wire Compliant: Non-compliant; Connector Type: Male Pin; Supplier 1: Digi-Key; Supplier Part Number 1: WM9816-ND; Stock: 10105; Pricing: 1=0.43, 10=0.406, 100=0.284, 500=0.2434, 1000=0.2028, 5000=0.1739, 10000=0.1623 (USD); Mount: Through Hole; Contact Plating: Tin; Contact Material: Bronze; Color: White; Housing Color: Natural; Housing Material: Polyester; Min Operating Temperature: -40°C; Max Operating Temperature: 105°C; Termination: Solder; Number of Rows: 1; Orientation: Vertical; Package Quantity: 2000; Packaging: Bulk; Contact Gender: Male; Voltage Rating: 250V; Number of Circuits: 3; Length: 9.9mm; Pitch: 2.5mm; Depth: 6.8mm; Lead Pitch: 2.5mm; ComponentLink1URL: http://uk.rs-online.com/webdocs/13c4/0900766b813c44f0.pdf; ComponentLink1Description: Datasheet; Fastening Type: Latch; Type: THT
footprint 53375-0310
pins: 1, 2, 3

## 53375-0410
designator J?, comment Header 4  (value not drawn)
CONN HEADER VERT 4POS 2.5MM; Manufacturer: Molex; Manufacturer Part Number: 53375-0410; Contact Resistance: 20mR; Max Voltage Rating (AC): 250V; Number of Positions: 4; Current Rating: 3A; Glow Wire Compliant: Non-compliant; Connector Type: Male Pin; Supplier 1: Digi-Key; Supplier Part Number 1: WM4269-ND; Stock: 15152; Pricing: 1=0.44, 10=0.409, 100=0.3135, 500=0.2726, 1000=0.2249, 5000=0.1976, 10000=0.184 (USD); Mount: Through Hole; Contact Plating: Tin; Contact Material: Bronze; Color: White; Housing Material: Polyester; Min Operating Temperature: -40°C; Max Operating Temperature: 105°C; Termination: Solder; Number of Rows: 1; Orientation: Vertical; Packaging: Bulk; Voltage Rating: 250V; Package Quantity: 1200; Number of Circuits: 4; Pitch: 2.5mm; ComponentLink1URL: http://www.farnell.com/datasheets/2146480.pdf; ComponentLink1Description: Datasheet; Contact Gender: Male; Depth: 6.8mm; Fastening Type: Latch; Housing Color: Natural; Lead Pitch: 2.5mm; Length: 12.4mm; Type: THT
footprint 53375-0410
pins: 1, 2, 3, 4

## 53375-0510
designator J?, comment Header 5  (value not drawn)
CONN HEADER VERT 5POS 2.5MM; Manufacturer: Molex; Manufacturer Part Number: 53375-0510; Contact Resistance: 20mR; Max Voltage Rating (AC): 250V; Number of Positions: 5; Current Rating: 3A; Glow Wire Compliant: Non-compliant; Connector Type: Male Pin; Supplier 1: Digi-Key; Supplier Part Number 1: WM4270-ND; Stock: 12104; Pricing: 1=0.55, 10=0.519, 100=0.3981, 500=0.3462, 1000=0.2856, 5000=0.251, 10000=0.2337 (USD); Mount: Through Hole; Contact Material: Bronze; Contact Plating: Tin; Color: White; Housing Material: Polyester; Min Operating Temperature: -40°C; Max Operating Temperature: 105°C; Orientation: Vertical; Termination: Solder; Number of Rows: 1; Packaging: Bulk; Number of Circuits: 5; Voltage Rating: 250V; Contact Gender: Male; Package Quantity: 1200; Pitch: 2.5mm; ComponentLink1URL: http://www.molex.com/webdocs/datasheets/pdf/en-us/0533750510_PCB_HEADERS.pdf; ComponentLink1Description: Datasheet; Depth: 6.8mm; Fastening Type: Latch; Housing Color: Natural; Lead Pitch: 2.5mm; Length: 14.9mm; Type: THT
footprint 53375-0510
pins: 1, 2, 3, 4, 5

## 53375-0610
designator J?, comment Header 6  (value not drawn)
CONN HEADER VERT 6POS 2.5MM; Manufacturer: Molex; Manufacturer Part Number: 53375-0610; Number of Contacts: 6; Contact Resistance: 20mR; Max Voltage Rating (AC): 250V; Gender: Male; Current Rating: 3A; Glow Wire Compliant: Non-compliant; Mounting Angle: Vertical; CNHTS: 8538900000; MXHTS: 85366999; TARIC: 8536693000; Supplier 1: Digi-Key; Supplier Part Number 1: WM9807-ND; Stock: 0; Pricing: 1=0.8, 10=0.748, 100=0.5737, 500=0.4989, 1000=0.4116, 5000=0.3617, 10000=0.3368 (USD); Mount: Through Hole; Contact Plating: Tin; Contact Material: Bronze; Color: White; Housing Material: Polyester; Min Operating Temperature: -40°C; Max Operating Temperature: 105°C; Termination: Solder; Number of Rows: 1; Orientation: Vertical; Package Quantity: 1200; Packaging: Bulk; Number of Positions: 6; Voltage Rating: 250V; Contact Gender: Male; Number of Circuits: 6; Pitch: 2.5mm; Radiation Hardening: No; REACH SVHC: Unknown; ComponentLink1URL: http://www.mouser.com/ds/2/276/0533750610_PCB_HEADERS-146749.pdf?src-supplier=Mouser; ComponentLink1Description: Datasheet; Supplier 2: Mouser; Supplier Part Number 2: 538-53375-0610; RoHS: RoHS Compliant; Category: Headers & Wire Housings; Accessory Type: -; Contact Type: -; Product: Headers; Series: 53375; Termination Style: Through Hole; Brand: Molex; Flammability Rating: UL 94 V-0; Mounting Style: Kinked Pin; Row Spacing: -; Housing Gender: -; HTS Code: 8536694040; Maximum Operating Temperature: + 105 C; Minimum Operating Temperature: - 40 C; Standard Pack Qty: 100; Tradename: Mini-Lock; RoHS - Mouser: Y; Minimum Order Quantity: 1; Reeling: False; Type: THT
footprint 53375-0610
pins: 1, 2, 3, 4, 5, 6

## 53375-0710
designator J?, comment Header 7  (value not drawn)
CONN HEADER VERT 7POS 2.5MM; Manufacturer: Molex; Manufacturer Part Number: 53375-0710; Contact Resistance: 20mR; Max Voltage Rating (AC): 250V; Number of Positions: 7; Current Rating: 3A; Glow Wire Compliant: Non-compliant; Connector Type: Male Pin; Supplier 1: Digi-Key; Supplier Part Number 1: WM4287-ND; Stock: 2417; Pricing: 1=0.53, 10=0.501, 100=0.3841, 500=0.334, 1000=0.2756, 5000=0.2422, 10000=0.2255 (USD); Mount: Through Hole; Contact Plating: Tin; Contact Material: Bronze; Color: White; Housing Material: Polyester; Min Operating Temperature: -40°C; Max Operating Temperature: 105°C; Number of Rows: 1; Termination: Solder; Packaging: Bulk; Orientation: Vertical; Voltage Rating: 250V; Contact Gender: Male; Package Quantity: 1000; Number of Circuits: 7; Pitch: 2.5mm; ComponentLink1URL: http://uk.rs-online.com/webdocs/13c4/0900766b813c44f4.pdf; ComponentLink1Description: Datasheet; Depth: 6.8mm; Fastening Type: Latch; Housing Color: Natural; Lead Pitch: 2.5mm; Length: 19.9mm; Type: THT
footprint 53375-0710
pins: 1, 2, 3, 4, 5, 6, 7

## 53375-0810
designator J?, comment Header 8  (value not drawn)
CONN HEADER VERT 8POS 2.5MM; Manufacturer: Molex; Manufacturer Part Number: 0533750810; Contact Resistance: 20mR; Number of Positions: 8; Max Voltage Rating (AC): 250V; Connector Type: Male Pin; Current Rating: 3 A; Mounting Angle: Vertical; Voltage Rating: 250 V; CNHTS: 8538900000; MXHTS: 85366999; TARIC: 8536699099; Supplier 1: Digi-Key; Supplier Part Number 1: WM13263-ND; Stock: 13284; Pricing: 1=0.67, 10=0.626, 100=0.4798, 500=0.4172, 1000=0.3442, 5000=0.3025, 10000=0.2816 (USD); Mount: Through Hole; Contact Plating: Tin; Contact Material: Bronze; Color: White; Housing Material: Polyester; Housing Color: Natural; Min Operating Temperature: -40°C; Max Operating Temperature: 105°C; Number of Rows: 1; Packaging: Bulk; Termination: Solder; Number of Contacts: 8; Orientation: Straight; Package Quantity: 1000; Fastening Type: Latch; Length: 22.4mm; Pitch: 2.5mm; Contact Mating Length: 0.157inch; Depth: 6.8mm; Supplier 2: Mouser; Supplier Part Number 2: 538-53375-0810; RoHS: RoHS Compliant; Category: Headers & Wire Housings; Accessory Type: -; Contact Type: -; Product: Headers; Series: 53375; Termination Style: Through Hole; Brand: Molex; Flammability Rating: UL 94 V-0; Mounting Style: Kinked Pin; Row Spacing: -; Contact Gender: Pin (Male); Housing Gender: -; HTS Code: 8536694040; Maximum Operating Temperature: + 105 C; Minimum Operating Temperature: - 40 C; Standard Pack Qty: 1000; Tradename: Mini-Lock; RoHS - Mouser: Y; Minimum Order Quantity: 1; Reeling: False; ComponentLink3URL: http://www.mouser.com/datasheet/2/276/0533750810_PCB_HEADERS-146750.pdf; ComponentLink3Description: Datasheet; Type: THT
footprint 53375-0810
pins: 1, 2, 3, 4, 5, 6, 7, 8

## 53375-0910
designator J?, comment Header 9  (value not drawn)
CONN HEADER VERT 9POS 2.5MM; Manufacturer: Molex; Manufacturer Part Number: 53375-0910; Contact Resistance: 20mR; Max Voltage Rating (AC): 250V; Number of Positions: 9; Current Rating: 3A; Glow Wire Compliant: Non-compliant; Connector Type: Male Pin; Supplier 1: Digi-Key; Supplier Part Number 1: WM13264-ND; Stock: 4538; Pricing: 1=0.73, 10=0.688, 100=0.5276, 500=0.4588, 1000=0.3785, 5000=0.3326, 10000=0.3097 (USD); Mount: Through Hole; Contact Plating: Tin; Contact Material: Bronze; Color: White; Housing Material: Polyester; Min Operating Temperature: -40°C; Max Operating Temperature: 105°C; Number of Rows: 1; Packaging: Bulk; Termination: Solder; Orientation: Vertical; Voltage Rating: 250V; Contact Gender: Male; Number of Circuits: 9; Pitch: 2.5mm; ComponentLink1URL: http://www.onlinecomponents.com/productFiles/mf-MOL/428400533750910_pcb_headers.pdf; ComponentLink1Description: Datasheet; Depth: 6.8mm; Fastening Type: Latch; Housing Color: Natural; Lead Pitch: 2.5mm; Length: 24.9mm; Package Quantity: 600; Type: THT
footprint 53375-0910
pins: 1, 2, 3, 4, 5, 6, 7, 8, 9

## 53375-1010
designator J?, comment Header 10  (value not drawn)
CONN HEADER VERT 10POS 2.5MM; Manufacturer: Molex; Manufacturer Part Number: 53375-1010; Contact Resistance: 20mR; Max Voltage Rating (AC): 250V; Number of Positions: 10; Current Rating: 3A; Glow Wire Compliant: Non-compliant; Connector Type: Male Pin; Mounting Angle: Vertical; CNHTS: 8538900000; MXHTS: 85366999; TARIC: 8536699099; Supplier 1: Digi-Key; Supplier Part Number 1: WM12778-ND; Stock: 4493; Pricing: 1=0.75, 10=0.703, 100=0.5389, 500=0.4686, 1000=0.3866, 5000=0.3397, 10000=0.3163 (USD); Mount: Through Hole; Contact Material: Bronze; Contact Plating: Tin; Color: White; Housing Material: Polyester; Min Operating Temperature: -40°C; Max Operating Temperature: 105°C; Packaging: Bulk; Package Quantity: 600; Number of Rows: 1; Termination: Solder; Orientation: Vertical; Voltage Rating: 250V; Number of Circuits: 10; Pitch: 2.5mm; ComponentLink1URL: http://www.mouser.com/ds/2/276/0533751010_PCB_HEADERS-229337.pdf; ComponentLink1Description: Datasheet; Contact Gender: Male; Depth: 6.8mm; Fastening Type: Latch; Housing Color: Natural; Lead Pitch: 2.5mm; Length: 27.4mm; Supplier 2: Mouser; Supplier Part Number 2: 538-53375-1010; RoHS: RoHS Compliant; Category: Headers & Wire Housings; Accessory Type: -; Contact Type: -; Product: Headers; Series: 53375; Termination Style: Through Hole; Brand: Molex; Flammability Rating: UL 94 V-0; Mounting Style: Kinked Pin; Row Spacing: -; Housing Gender: -; HTS Code: 8536694040; Maximum Operating Temperature: + 105 C; Minimum Operating Temperature: - 40 C; Standard Pack Qty: 600; Tradename: Mini-Lock; RoHS - Mouser: Y; Minimum Order Quantity: 1; Reeling: False; Type: THT
footprint 53375-1010
pins: 1, 2, 3, 4, 5, 6, 7, 8, 9, 10

## 53375-1110
designator J?, comment Header 11  (value not drawn)
CONN HEADER VERT 11POS 2.5MM; Manufacturer: Molex; Manufacturer Part Number: 53375-1110; Number of Positions: 11; Contact Resistance: 20mR; Max Voltage Rating (AC): 250V; Connector Type: Male Pin; Current Rating: 3A; Glow Wire Compliant: Non-compliant; Supplier 1: Digi-Key; Supplier Part Number 1: WM23381-ND; Stock: 4800; Pricing: 1=0.75, 10=0.661, 100=0.5705, 500=0.4667, 1000=0.4149, 5000=0.363, 10000=0.3449 (USD); Mount: Through Hole; Contact Plating: Tin; Housing Material: Polyester; Color: White; Contact Material: Bronze; Housing Color: Natural; Min Operating Temperature: -40°C; Max Operating Temperature: 105°C; Orientation: Vertical; Packaging: Bulk; Number of Rows: 1; Termination: Solder; Fastening Type: Latch; Length: 29.9mm; Pitch: 2.5mm; Depth: 6.8mm; ComponentLink1URL: http://www.molex.com/pdm_docs/sd/533751110_sd.pdf; ComponentLink1Description: Datasheet; Number of Circuits: 11; Contact Gender: Male; Lead Pitch: 2.5mm; Package Quantity: 600; Voltage Rating: 250V; Type: THT
footprint 53375-1110
pins: 1, 2, 3, 4, 5, 6, 7, 8, 9, 10, 11

## 53375-1210
designator J?, comment Header 12  (value not drawn)
CONN HEADER VERT 12POS 2.5MM; Manufacturer: Molex; Manufacturer Part Number: 53375-1210; Contact Resistance: 20mR; Max Voltage Rating (AC): 250V; Number of Positions: 12; Current Rating: 3A; Glow Wire Compliant: Non-compliant; Connector Type: Male Pin; Supplier 1: Digi-Key; Supplier Part Number 1: WM13265-ND; Stock: 1230; Pricing: 1=1.31, 10=1.148, 100=0.99, 500=0.81, 1000=0.72, 5000=0.63, 10000=0.5985 (USD); Mount: Through Hole; Contact Plating: Tin; Contact Material: Bronze; Housing Material: Polyester; Min Operating Temperature: -40°C; Max Operating Temperature: 105°C; Number of Rows: 1; Termination: Solder; Package Quantity: 400; Packaging: Bulk; Orientation: Vertical; Voltage Rating: 250V; Contact Gender: Male; Number of Circuits: 12; Pitch: 2.5mm; ComponentLink1URL: http://www.mouser.com/ds/2/276/0533751210_PCB_HEADERS-229303.pdf; ComponentLink1Description: Datasheet; Color: White; Depth: 6.8mm; Fastening Type: Latch; Housing Color: Natural; Lead Pitch: 2.5mm; Length: 32.4mm; Type: THT
footprint 53375-1210
pins: 1, 2, 3, 4, 5, 6, 7, 8, 9, 10, 11, 12

## 53375-1310
designator J?, comment Header 13  (value not drawn)
CONN HEADER VERT 13POS 2.5MM; Manufacturer: Molex; Manufacturer Part Number: 53375-1310; Number of Positions: 13; Contact Resistance: 20mR; Max Voltage Rating (AC): 250V; Connector Type: Male Pin; Current Rating: 3A; Glow Wire Compliant: Non-compliant; Supplier 1: Digi-Key; Supplier Part Number 1: WM20349-ND; Stock: 4650; Pricing: 1=0.77, 10=0.677, 100=0.5839, 500=0.4777, 1000=0.4246, 5000=0.3716, 10000=0.353 (USD); Mount: Through Hole; Contact Plating: Tin; Contact Material: Bronze; Housing Material: Polyester; Color: White; Housing Color: Natural; Min Operating Temperature: -40°C; Max Operating Temperature: 105°C; Orientation: Vertical; Number of Rows: 1; Packaging: Bulk; Termination: Solder; Fastening Type: Latch; Length: 34.9mm; Pitch: 2.5mm; Depth: 6.8mm; ComponentLink1URL: http://www.molex.com/pdm_docs/sd/533751310_sd.pdf; ComponentLink1Description: Datasheet; Number of Circuits: 13; Contact Gender: Male; Lead Pitch: 2.5mm; Package Quantity: 400; Voltage Rating: 250V; Type: THT
footprint 53375-1310
pins: 1, 2, 3, 4, 5, 6, 7, 8, 9, 10, 11, 12, 13

## 53375-1410
designator J?, comment Header 14  (value not drawn)
CONN HEADER VERT 14POS 2.5MM; Manufacturer: Molex; Manufacturer Part Number: 53375-1410; Contact Resistance: 20mR; Number of Positions: 14; Max Voltage Rating (AC): 250V; Connector Type: Male Pin; Current Rating: 3A; Glow Wire Compliant: Non-compliant; Supplier 1: Digi-Key; Supplier Part Number 1: WM20350-ND; Stock: 3238; Pricing: 1=1.04, 10=0.917, 100=0.7916, 500=0.6476, 1000=0.5757, 5000=0.5037, 10000=0.4785 (USD); Mount: Through Hole; Contact Plating: Tin; Housing Material: Polyester; Color: White; Contact Material: Bronze; Housing Color: Natural; Min Operating Temperature: -40°C; Max Operating Temperature: 105°C; Number of Rows: 1; Packaging: Bulk; Termination: Solder; Orientation: Vertical; Fastening Type: Latch; Length: 37.4mm; Pitch: 2.5mm; Depth: 6.8mm; ComponentLink1URL: http://www.molex.com/pdm_docs/sd/533751410_sd.pdf; ComponentLink1Description: Datasheet; Number of Circuits: 14; Contact Gender: Male; Lead Pitch: 2.5mm; Package Quantity: 1200; Voltage Rating: 250V; Type: THT
footprint 53375-1410
pins: 1, 2, 3, 4, 5, 6, 7, 8, 9, 10, 11, 12, 13, 14

## 53375-1510
designator J?, comment Header 15  (value not drawn)
CONN HEADER VERT 15POS 2.5MM; Manufacturer: Molex; Manufacturer Part Number: 53375-1510; Contact Resistance: 20mR; Number of Positions: 15; Max Voltage Rating (AC): 250V; Connector Type: Male Pin; Current Rating: 3A; Glow Wire Compliant: Non-compliant; Supplier 1: Digi-Key; Supplier Part Number 1: WM13266-ND; Stock: 4979; Mount: Through Hole; Contact Plating: Tin; Contact Material: Bronze; Housing Color: Natural; Housing Material: Polyester; Color: White; Min Operating Temperature: -40°C; Max Operating Temperature: 105°C; Number of Rows: 1; Package Quantity: 300; Packaging: Bulk; Termination: Solder; Orientation: Vertical; Fastening Type: Latch; Length: 39.9mm; Pitch: 2.5mm; Depth: 6.8mm; ComponentLink1URL: http://www.molex.com/pdm_docs/sd/533751510_sd.pdf; ComponentLink1Description: Datasheet; Number of Circuits: 15; Contact Gender: Male; Lead Pitch: 2.5mm; Voltage Rating: 250V; Pricing: 1=1.06, 10=0.934, 100=0.80590, 500=0.65934, 1000=0.58608, 5000=0.51282, 10000=0.48718 (USD); Type: THT
footprint 53375-1510
pins: 1, 2, 3, 4, 5, 6, 7, 8, 9, 10, 11, 12, 13, 14, 15

## 53426-0210
designator J?, comment Header 2
CONN HEADER RIGHT ANGLE 2POS 2.5MM; Manufacturer: Molex; Manufacturer Part Number: 53426-0210; Contact Resistance: 20mR; Number of Positions: 2; Current Rating: 3A; Voltage Rating: 250V; Glow Wire Compliant: Non-compliant; Connector Type: Male Pin; Supplier 1: Digi-Key; Supplier Part Number 1: WM3423-ND; Stock: 14868; Pricing: 1=0.34, 10=0.323, 100=0.2259, 500=0.1936, 1500=0.1531, 6000=0.1383, 10500=0.1291 (USD); Mount: Through Hole; Contact Material: Bronze; Contact Plating: Tin; Color: White; Housing Material: Polyester; Min Operating Temperature: -40°C; Max Operating Temperature: 105°C; Number of Rows: 1; Termination: Through Hole; Packaging: Tray; Orientation: Right Angle; Package Quantity: 1500; Number of Circuits: 2; Pitch: 2.5mm; ComponentLink1URL: http://www.mouser.com/ds/2/276/0534260210_PCB_HEADERS-229348.pdf; ComponentLink1Description: Datasheet; Contact Gender: Male; Depth: 11.5mm; Fastening Type: Ramp; Housing Color: White; Lead Pitch: 2.5mm; Length: 7.4mm; Max Voltage Rating (AC): 250V; Type: THT
footprint 53426-0210
pins: 1, 2

## 53426-0310
designator J?, comment Header 3
CONN HEADER RIGHT ANGLE 3POS 2.5MM; Manufacturer: Molex; Manufacturer Part Number: 53426-0310; Contact Resistance: 20mR; Number of Positions: 3; Current Rating: 3A; Voltage Rating: 250V; Glow Wire Compliant: Non-compliant; Connector Type: Male Pin; Supplier 1: Digi-Key; Stock: 18973; Pricing: 1=0.52, 10=0.487, 100=0.3734, 500=0.3247, 1000=0.2679, 5000=0.2354, 10000=0.2192 (USD); Mount: Through Hole; Contact Plating: Tin; Contact Material: Bronze; Housing Material: Polyester; Color: White; Min Operating Temperature: -40°C; Max Operating Temperature: 105°C; Number of Rows: 1; Termination: Through Hole; Packaging: Tray; Orientation: Right Angle; Package Quantity: 1000; Number of Circuits: 3; Pitch: 2.5mm; ComponentLink1URL: http://www.molex.com/webdocs/datasheets/pdf/en-us/0534260310_PCB_HEADERS.pdf; ComponentLink1Description: Datasheet; Contact Gender: Male; Depth: 11.5mm; Fastening Type: Ramp; Housing Color: White; Lead Pitch: 2.5mm; Length: 9.9mm; Max Voltage Rating (AC): 250V; Type: THT; Supplier Part Number 1: WM7586-ND
footprint 53426-0310
pins: 1, 2, 3